# Altium footprint library Flex-pad-0.254-SMT.PcbLib: 1 footprints
Each footprint in its own frame and in the unit in brackets; x right, y up, seen from the top. Pads: shape width x height; smd on the part's side, far side on the other; paste and mask are expansions set on the pad; w line width, h text height; cw(c..) or ccw(c..) is an arc to the next point about the centre after c.
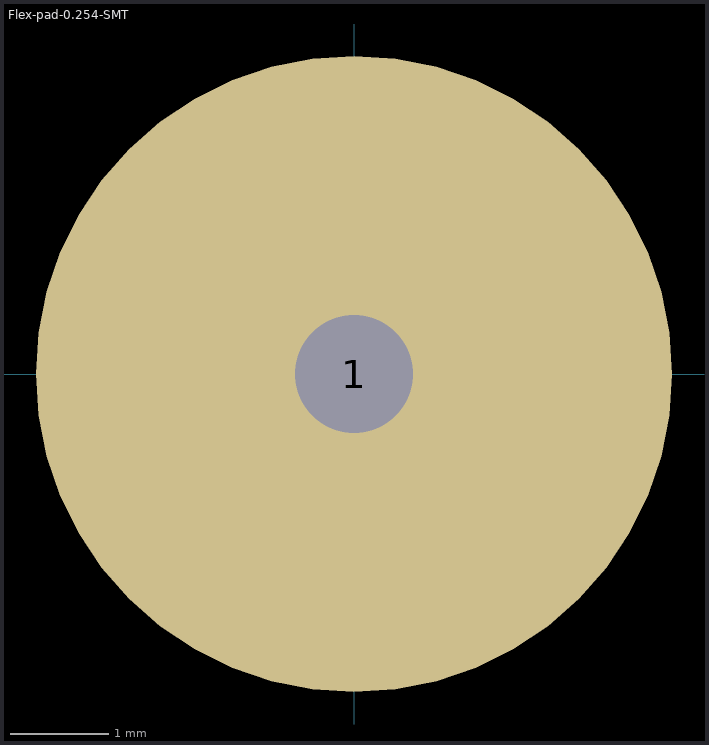
[diagram p0: the footprint, top view; thin cyan lines are the x and y axes]

## Flex-pad-0.254-SMT [mil]
pads (1):
  round 254 / inner round 254 / far side round 100 hole 47.24 paste-39330.7 mask-4: 1(0,0)
Top Paste:
  region: -115,25 -112.87,34.77 -105.39,53.33 -94.87,70.35 -81.64,85.35 -66.06,97.91 -48.59,107.65 -29.72,114.31 -10,117.69 10,117.69 29.72,114.31 48.59,107.65 66.06,97.91 81.64,85.35 94.87,70.35 105.39,53.33 112.87,34.77 115,25
  region: -115,-25 -112.87,-34.77 -105.39,-53.33 -94.87,-70.35 -81.64,-85.35 -66.06,-97.91 -48.59,-107.65 -29.72,-114.31 -10,-117.69 10,-117.69 29.72,-114.31 48.59,-107.65 66.06,-97.91 81.64,-85.35 94.87,-70.35 105.39,-53.33 112.87,-34.77 115,-25